# EAGLE library part FT232H (library GadgetFactory_v1)
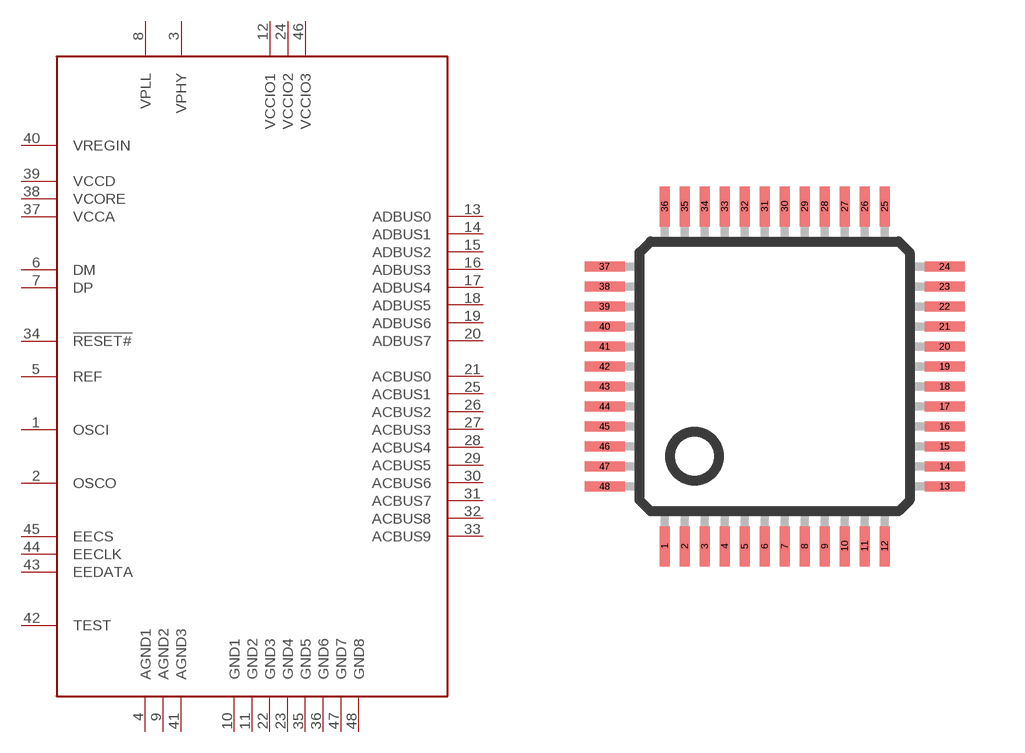
[diagram p4: symbol with the pads of LQFP48; footprint LQFP48]

Designator prefix U

## FT232HL  [LQFP48]
1  OSCI  pas
2  OSCO  pas
3  VPHY  pwr
4  AGND1  pas
5  REF  pas
6  DM  pas
7  DP  pas
8  VPLL  pwr
9  AGND2  pas
10  GND1  pas
11  GND2  pas
12  VCCIO1  pwr
13  ADBUS0
14  ADBUS1
15  ADBUS2
16  ADBUS3
17  ADBUS4
18  ADBUS5
19  ADBUS6
20  ADBUS7
21  ACBUS0
22  GND3  pas
23  GND4  pas
24  VCCIO2  pwr
25  ACBUS1
26  ACBUS2
27  ACBUS3
28  ACBUS4
29  ACBUS5
30  ACBUS6
31  ACBUS7
32  ACBUS8
33  ACBUS9
34  !RESET#  pas
35  GND5  pas
36  GND6  pas
37  VCCA  pas
38  VCORE  pas
39  VCCD  pas
40  VREGIN  pas
41  AGND3  pas
42  TEST  pas
43  EEDATA  pas
44  EECLK  pas
45  EECS  pas
46  VCCIO3  pwr
47  GND7  pas
48  GND8  pas

## Footprint LQFP48 (pad centres in mm)
smd 0.25 x 1: 1 -2.75,-4.25; 2 -2.25,-4.25; 3 -1.75,-4.25; 4 -1.25,-4.25; 5 -0.75,-4.25; 6 -0.25,-4.25; 7 0.25,-4.25; 8 0.75,-4.25; 9 1.25,-4.25; 10 1.75,-4.25; 11 2.25,-4.25; 12 2.75,-4.25; 25 2.75,4.25; 26 2.25,4.25; 27 1.75,4.25; 28 1.25,4.25; 29 0.75,4.25; 30 0.25,4.25; 31 -0.25,4.25; 32 -0.75,4.25; 33 -1.25,4.25; 34 -1.75,4.25; 35 -2.25,4.25; 36 -2.75,4.25
smd 1 x 0.25: 13 4.25,-2.75; 14 4.25,-2.25; 15 4.25,-1.75; 16 4.25,-1.25; 17 4.25,-0.75; 18 4.25,-0.25; 19 4.25,0.25; 20 4.25,0.75; 21 4.25,1.25; 22 4.25,1.75; 23 4.25,2.25; 24 4.25,2.75; 37 -4.25,2.75; 38 -4.25,2.25; 39 -4.25,1.75; 40 -4.25,1.25; 41 -4.25,0.75; 42 -4.25,0.25; 43 -4.25,-0.25; 44 -4.25,-0.75; 45 -4.25,-1.25; 46 -4.25,-1.75; 47 -4.25,-2.25; 48 -4.25,-2.75